# Altium schematic symbol library TCA9406DCTR.SchLib: 1 symbol
Pins are listed as number, name and electrical type; pins without a type are passive.

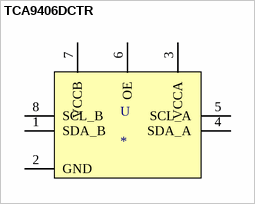
[diagram p0: symbol TCA9406DCTR]

## TCA9406DCTR
designator U
2-Bit Bidirectional 1-MHz I2C Bus and SMBus Voltage-Level Shifter 8-SM8 -40 to 85; MF: Texas Instruments; MP: TCA9406DCTR; Texas_Instruments-Purchase-URL: https://snapeda.com/shop?store=Texas+Instruments&id=105451; Package: SSOP-8 Texas Instruments; Availability: Unavailable; SnapEDA_Link: https://www.snapeda.com/parts/TCA9406DCTR/Texas%20Instruments/view-part/105451/?ref=snap; Value: *; Price: None
footprint SOP65P400X130-8N
pins: 1 SDA_B (power), 2 GND (power), 3 VCCA (power), 4 SDA_A (power), 5 SCL_A (power), 6 OE (power), 7 VCCB (power), 8 SCL_B (power)